# Altium integrated library Analog Devices Data Converters Analog-to-Digital Converters.IntLib: 2400 symbols (part 50 of 338)
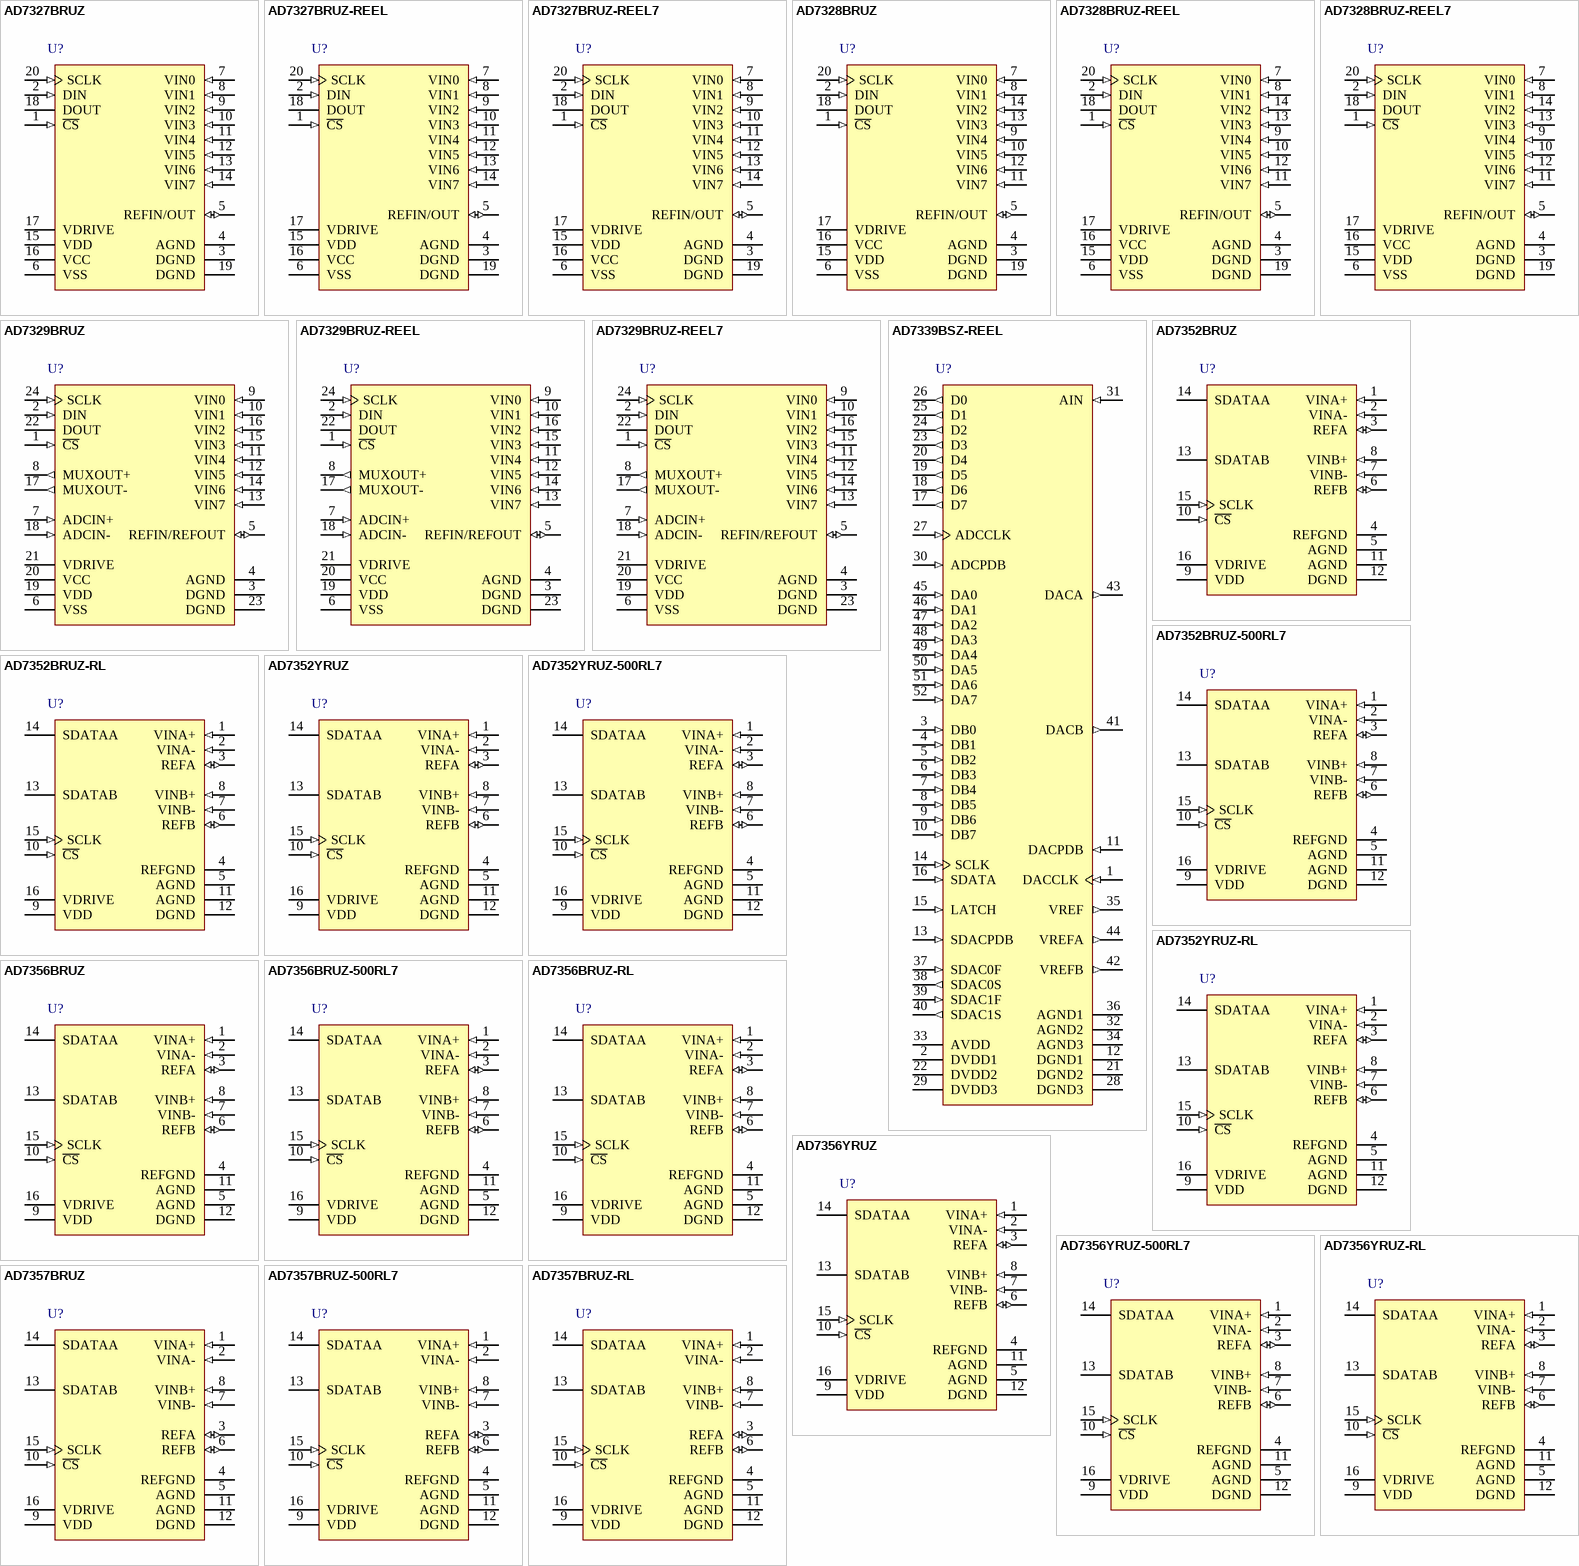
[diagram p184: symbols AD7327BRUZ to AD7357BRUZ-RL]

## AD7339BSZ-REEL
designator U?
Single 8-Bit Analog-to-Digital Converter with Parallel Interface, 5 V, 2MSPS, -40 to +85 degC, S-52-2, Pb-Free, Reel; Part Number: AD7339; Manufacturer: Analog Devices; Resolution (Bits): 8; Channels: 1; Throughput Rate (SPS): 2M; Interface: Par; DatasheetVersion: Rev.0; PackageVersion: 2004; PackageReference: S-52-2; PackageDescription: 52-Lead Metric Quad Flat Package [MQFP]; RoHS: Y; Packing: Reel; Mounting Technology: Surface Mount; Code_JEDEC: MO-112-AC-1; ComponentLink1Description: Manufacturer URL; ComponentLink1URL: http://www.analog.com/en/index.html; ComponentLink2Description: Datasheet; ComponentLink2URL: http://www.analog.com/static/imported-files/data_sheets/AD7339.pdf; ComponentLink3Description: Package Specification; ComponentLink3URL: http://www.analog.com/static/imported-files/packages/32717196300961S_52_2.pdf; ComponentLink4Description: Product URL; ComponentLink4URL: http://www.analog.com/en/analog-to-digital-converters/ad-converters/ad7339/products/product.html
footprint S-52-2_N (QFP, 52-Leads, Body 10x10mm, Pitch 0.65mm, IPC Medium Density)
footprint S-52-2_L (QFP, 52-Leads, Body 10x10mm, Pitch 0.65mm, IPC High Density)
footprint S-52-2_M (QFP, 52-Leads, Body 10x10mm, Pitch 0.65mm, IPC Low Density)
pins: 1 DACCLK (in) "Input clock to the parallel DACs. The digital words in the A and B DAC registers are loaded into the DACs on the rising edge of DACCLK. DACCLK has a nominal frequency of 2.304 MHz and uses CMOS logic.", 2 DVDD1 (power) "Digital power supply for the parallel DACs.", 3 DB0 (in) "Digital input to the parallel B DAC. The digital input uses CMOS logic and the word is presented to the DAC in offset binary format.", 4 DB1 (in) "Digital input to the parallel B DAC. The digital input uses CMOS logic and the word is presented to the DAC in offset binary format.", 5 DB2 (in) "Digital input to the parallel B DAC. The digital input uses CMOS logic and the word is presented to the DAC in offset binary format.", 6 DB3 (in) "Digital input to the parallel B DAC. The digital input uses CMOS logic and the word is presented to the DAC in offset binary format.", 7 DB4 (in) "Digital input to the parallel B DAC. The digital input uses CMOS logic and the word is presented to the DAC in offset binary format.", 8 DB5 (in) "Digital input to the parallel B DAC. The digital input uses CMOS logic and the word is presented to the DAC in offset binary format.", 9 DB6 (in) "Digital input to the parallel B DAC. The digital input uses CMOS logic and the word is presented to the DAC in offset binary format.", 10 DB7 (in) "Digital input to the parallel B DAC. The digital input uses CMOS logic and the word is presented to the DAC in offset binary format.", 11 DACPDB (in) "Digital Input. The parallel DACs, VREFA and VREFB, can be powered down using pin DACPDB. When DACPDB is low, both of the parallel DACs and the VREFA/VREFB outputs are placed in a standby mode, drawing a minimal current. The (See Datasheet)", 12 DGND1 (power) "Digital ground connection for the parallel DACs.", 13 SDACPDB (in) "Digital Input. The serial DACs are powered down using SDACPDB. When this pin is tied low, the serial DACs are placed in standby mode.", 14 SCLK (in) "Serial Input Clock. Data is latched into the registers on the rising edge of SCLK, which is nominally set to 256 kHz. SCLK is a gated clock--the clock should be active only when data is being loaded into the latches. The (See Datasheet)", 15 LATCH (in) "Latch Enable Input. LATCH is used to load the digital data from the latch into the DAC and begin conversion. Both DACs are loaded with the digital data in their respective latches. LATCH is pulsed high to load the DACs, the (See Datasheet)", 16 SDATA (in) "Serial Input Data. Serial data is latched into the AD7339 registers on the rising edge of SCLK. The digital data uses CMOS logic. Data is loaded into the latches in 10-bit bursts (MSB first), the 2 MSBs of the word (See Datasheet)", 17 D7 (out) "Digital Output from the ADC. The 8-bit digital word from the ADC is in offset binary. The digital output uses CMOS logic.", 18 D6 (out) "Digital Output from the ADC. The 8-bit digital word from the ADC is in offset binary. The digital output uses CMOS logic.", 19 D5 (out) "Digital Output from the ADC. The 8-bit digital word from the ADC is in offset binary. The digital output uses CMOS logic.", 20 D4 (out) "Digital Output from the ADC. The 8-bit digital word from the ADC is in offset binary. The digital output uses CMOS logic.", 21 DGND2 (power) "Digital ground connection for the ADC.", 22 DVDD2 (power) "Digital power supply for the ADC.", 23 D3 (out) "Digital Output from the ADC. The 8-bit digital word from the ADC is in offset binary. The digital output uses CMOS logic.", 24 D2 (out) "Digital Output from the ADC. The 8-bit digital word from the ADC is in offset binary. The digital output uses CMOS logic.", 25 D1 (out) "Digital Output from the ADC. The 8-bit digital word from the ADC is in offset binary. The digital output uses CMOS logic.", 26 D0 (out) "Digital Output from the ADC. The 8-bit digital word from the ADC is in offset binary. The digital output uses CMOS logic.", 27 ADCCLK (in) "ADC Input Clock, CMOS Logic Input. The analog input is sampled on the rising edge of ADCCLK. ADCCLK is nominally set to 2.048 MHz.", 28 DGND3 (power) "Digital ground connection for the ADC.", 29 DVDD3 (power) "Digital power supply for the ADC.", 30 ADCPDB (in) "Digital Input. When ADCPDB is low, the ADC is powered down. While in this mode, ADCCLK should be tied low. The ADC is powered up by taking ADCPDB high.", 31 AIN (in) "Analog input to the ADC. The analog input must be appropriately ac coupled. The AD7339 can accept an analog input of +/-1 V maximum.", 32 AGND2 (power) "Analog ground connection for the ADC.", 33 AVDD (power) "Analog power supply connection.", 34 AGND3 (power) "Analog ground connection for the reference.", 35 VREF (out) "The onboard bandgap reference is available on the VREF pin. The reference has a value of 2.5 V nominal. A bypass capacitor of 0.1 mF is required between VREF and AGND. This output cannot be powered down.", 36 AGND1 (power) "Analog ground connection for the parallel DACs.", 37 SDAC0F (in) "Feedback Analog Input. By connecting a resistor between SDAC0F and SDAC0S, the gain of the DAC0 buffer can be altered and the magnitude of the analog output adjusted accordingly.", 38 SDAC0S (out) "Analog Output from Serial DAC0. The analog output from this DAC will have a value of 0.2 V to AVDD - 0.247 V.", 39 SDAC1F (in) "Feedback Analog Input. By connecting a resistor between SDAC1F and SDAC1S, the gain of the DAC1 buffer can be altered and the magnitude of the analog output adjusted accordingly.", 40 SDAC1S (out) "Analog Output from Serial DAC1. The analog output from this DAC will have a value of 0.2 V to AVDD - 0.247 V.", 41 DACB (out) "Analog outputs from the A and B DACs. Both DACs have an analog output of VREFA/VREFB +/- X volts where VREFA = VREFB = 2.5 V nominal and X = 1.4 V.", 42 VREFB (out) "A buffered version of the reference is available on VREFA/VREFB. The analog outputs from the parallel DACs are biased about the reference voltage. DACA is biased about VREFA while DACB is biased about VREFB. VREFA and VREFB (See Datasheet)", 43 DACA (out) "Analog outputs from the A and B DACs. Both DACs have an analog output of VREFA/VREFB +/- X volts where VREFA = VREFB = 2.5 V nominal and X = 1.4 V.", 44 VREFA (out) "A buffered version of the reference is available on VREFA/VREFB. The analog outputs from the parallel DACs are biased about the reference voltage. DACA is biased about VREFA while DACB is biased about VREFB. VREFA and VREFB (See Datasheet)", 45 DA0 (in) "Digital input to the parallel A DAC. The digital input uses CMOS logic and the word is presented to the DAC in offset binary format.", 46 DA1 (in) "Digital input to the parallel A DAC. The digital input uses CMOS logic and the word is presented to the DAC in offset binary format.", 47 DA2 (in) "Digital input to the parallel A DAC. The digital input uses CMOS logic and the word is presented to the DAC in offset binary format.", 48 DA3 (in) "Digital input to the parallel A DAC. The digital input uses CMOS logic and the word is presented to the DAC in offset binary format.", 49 DA4 (in) "Digital input to the parallel A DAC. The digital input uses CMOS logic and the word is presented to the DAC in offset binary format.", 50 DA5 (in) "Digital input to the parallel A DAC. The digital input uses CMOS logic and the word is presented to the DAC in offset binary format.", 51 DA6 (in) "Digital input to the parallel A DAC. The digital input uses CMOS logic and the word is presented to the DAC in offset binary format.", 52 DA7 (in) "Digital input to the parallel A DAC. The digital input uses CMOS logic and the word is presented to the DAC in offset binary format."

## AD7352BRUZ
designator U?
Dual 12-Bit SAR Analog-to-Digital Converter with Serial, SPI Interface, Simultaneous Sampling, 3MSPS, -40 to +85 degC, RU-16, Pb-Free, Tube; Part Number: AD7352; Manufacturer: Analog Devices; Resolution (Bits): 12; Channels: 2; Throughput Rate (SPS): 3M; Interface: Ser, SPI; DatasheetVersion: Rev.A; PackageVersion: Nov-2002; PackageReference: RU-16; PackageDescription: 16-Lead Thin Shrink Small Outline Package [TSSOP]; RoHS: Y; Packing: Tube; Mounting Technology: Surface Mount; Code_JEDEC: MO-153-AB; ComponentLink1Description: Manufacturer URL; ComponentLink1URL: http://www.analog.com/en/index.html; ComponentLink2Description: Datasheet; ComponentLink2URL: http://www.analog.com/static/imported-files/data_sheets/AD7352.pdf; ComponentLink3Description: Package Specification; ComponentLink3URL: http://www.analog.com/static/imported-files/packages/36244347913743854010197452789RU16.pdf; ComponentLink4Description: Product URL; ComponentLink4URL: http://www.analog.com/en/analog-to-digital-converters/ad-converters/ad7352/products/product.html
footprint RU-16_N (TSOP, 16-Leads, Body 5x4.4mm, Pitch 0.65mm, IPC Medium Density)
footprint RU-16_L (TSOP, 16-Leads, Body 5x4.4mm, Pitch 0.65mm, IPC High Density)
footprint RU-16_M (TSOP, 16-Leads, Body 5x4.4mm, Pitch 0.65mm, IPC Low Density)
pins: 1 VINA+ (in) "Analog Inputs of ADC A. These analog inputs form a fully differential pair.", 2 VINA- (in) "Analog Inputs of ADC A. These analog inputs form a fully differential pair.", 3 REFA (io) "Reference Decoupling Capacitor Pins. Decoupling capacitors are connected between these pins and the REFGND pin to decouple the reference buffer for each respective ADC. It is recommended to decouple each reference pin with a (See Datasheet)", 4 REFGND (power) "Reference Ground. This is the ground reference point for the reference circuitry on the AD7352. Any external reference signal should be referred to this REFGND voltage. Decoupling capacitors must be placed between this pin (See Datasheet)", 5 AGND (power) "Analog Ground. This is the ground reference point for all analog circuitry on the AD7352. Refer all analog input signals to this AGND voltage. The AGND and DGND voltages should ideally be at the same potential and must not (See Datasheet)", 6 REFB (io) "Reference Decoupling Capacitor Pins. Decoupling capacitors are connected between these pins and the REFGND pin to decouple the reference buffer for each respective ADC. It is recommended to decouple each reference pin with a (See Datasheet)", 7 VINB- (in) "Analog Inputs of ADC B. These analog inputs form a fully differential pair.", 8 VINB+ (in) "Analog Inputs of ADC B. These analog inputs form a fully differential pair.", 9 VDD (power) "Power Supply Input. The VDD range for the AD7352 is 2.5 V +/-10%. Decouple the supply to AGND with a 0.1 uF capacitor in parallel with a 10 uF tantalum capacitor.", 10 ~{CS} (in) "Chip Select. Active low, logic input. This input provides the dual functions of initiating conversions on the AD7352 and framing the serial data transfer.", 11 AGND (power) "Analog Ground. This is the ground reference point for all analog circuitry on the AD7352. Refer all analog input signals to this AGND voltage. The AGND and DGND voltages should ideally be at the same potential and must not (See Datasheet)", 12 DGND (power) "Digital Ground. This is the ground reference point for all digital circuitry on the AD7352. Connect this pin to the DGND plane of a system. The DGND and AGND voltages should ideally be at the same potential and must not be (See Datasheet)", 13 SDATAB (hiz) "Serial Data Outputs. The data output is supplied to each pin as a serial data stream. The bits are clocked out on the falling edge of the SCLK input. To access the 12 bits of data from the AD7352, 14 SCLK falling edges are (See Datasheet)", 14 SDATAA (hiz) "Serial Data Outputs. The data output is supplied to each pin as a serial data stream. The bits are clocked out on the falling edge of the SCLK input. To access the 12 bits of data from the AD7352, 14 SCLK falling edges are (See Datasheet)", 15 SCLK (in) "Serial Clock, Logic Input. A serial clock input provides the serial clock for accessing the data from the AD7352. This clock is also used as the clock source for the conversion process.", 16 VDRIVE (power) "Logic Power Supply Input. The voltage supplied at this pin determines at what voltage the interface operates. The voltage at this pin may be different than the voltage at VDD. The VDRIVE supply should be decoupled to DGND (See Datasheet)"

## AD7352BRUZ-500RL7
designator U?
Dual 12-Bit SAR Analog-to-Digital Converter with Serial, SPI Interface, Simultaneous Sampling, 3MSPS, -40 to +85 degC, RU-16, Pb-Free, Reel; Part Number: AD7352; Manufacturer: Analog Devices; Resolution (Bits): 12; Channels: 2; Throughput Rate (SPS): 3M; Interface: Ser, SPI; DatasheetVersion: Rev.A; PackageVersion: Nov-2002; PackageReference: RU-16; PackageDescription: 16-Lead Thin Shrink Small Outline Package [TSSOP]; RoHS: Y; Packing: Reel; Mounting Technology: Surface Mount; Code_JEDEC: MO-153-AB; ComponentLink1Description: Manufacturer URL; ComponentLink1URL: http://www.analog.com/en/index.html; ComponentLink2Description: Datasheet; ComponentLink2URL: http://www.analog.com/static/imported-files/data_sheets/AD7352.pdf; ComponentLink3Description: Package Specification; ComponentLink3URL: http://www.analog.com/static/imported-files/packages/36244347913743854010197452789RU16.pdf; ComponentLink4Description: Product URL; ComponentLink4URL: http://www.analog.com/en/analog-to-digital-converters/ad-converters/ad7352/products/product.html
footprint RU-16_N (TSOP, 16-Leads, Body 5x4.4mm, Pitch 0.65mm, IPC Medium Density)
footprint RU-16_L (TSOP, 16-Leads, Body 5x4.4mm, Pitch 0.65mm, IPC High Density)
footprint RU-16_M (TSOP, 16-Leads, Body 5x4.4mm, Pitch 0.65mm, IPC Low Density)
pins: 1 VINA+ (in) "Analog Inputs of ADC A. These analog inputs form a fully differential pair.", 2 VINA- (in) "Analog Inputs of ADC A. These analog inputs form a fully differential pair.", 3 REFA (io) "Reference Decoupling Capacitor Pins. Decoupling capacitors are connected between these pins and the REFGND pin to decouple the reference buffer for each respective ADC. It is recommended to decouple each reference pin with a (See Datasheet)", 4 REFGND (power) "Reference Ground. This is the ground reference point for the reference circuitry on the AD7352. Any external reference signal should be referred to this REFGND voltage. Decoupling capacitors must be placed between this pin (See Datasheet)", 5 AGND (power) "Analog Ground. This is the ground reference point for all analog circuitry on the AD7352. Refer all analog input signals to this AGND voltage. The AGND and DGND voltages should ideally be at the same potential and must not (See Datasheet)", 6 REFB (io) "Reference Decoupling Capacitor Pins. Decoupling capacitors are connected between these pins and the REFGND pin to decouple the reference buffer for each respective ADC. It is recommended to decouple each reference pin with a (See Datasheet)", 7 VINB- (in) "Analog Inputs of ADC B. These analog inputs form a fully differential pair.", 8 VINB+ (in) "Analog Inputs of ADC B. These analog inputs form a fully differential pair.", 9 VDD (power) "Power Supply Input. The VDD range for the AD7352 is 2.5 V +/-10%. Decouple the supply to AGND with a 0.1 uF capacitor in parallel with a 10 uF tantalum capacitor.", 10 ~{CS} (in) "Chip Select. Active low, logic input. This input provides the dual functions of initiating conversions on the AD7352 and framing the serial data transfer.", 11 AGND (power) "Analog Ground. This is the ground reference point for all analog circuitry on the AD7352. Refer all analog input signals to this AGND voltage. The AGND and DGND voltages should ideally be at the same potential and must not (See Datasheet)", 12 DGND (power) "Digital Ground. This is the ground reference point for all digital circuitry on the AD7352. Connect this pin to the DGND plane of a system. The DGND and AGND voltages should ideally be at the same potential and must not be (See Datasheet)", 13 SDATAB (hiz) "Serial Data Outputs. The data output is supplied to each pin as a serial data stream. The bits are clocked out on the falling edge of the SCLK input. To access the 12 bits of data from the AD7352, 14 SCLK falling edges are (See Datasheet)", 14 SDATAA (hiz) "Serial Data Outputs. The data output is supplied to each pin as a serial data stream. The bits are clocked out on the falling edge of the SCLK input. To access the 12 bits of data from the AD7352, 14 SCLK falling edges are (See Datasheet)", 15 SCLK (in) "Serial Clock, Logic Input. A serial clock input provides the serial clock for accessing the data from the AD7352. This clock is also used as the clock source for the conversion process.", 16 VDRIVE (power) "Logic Power Supply Input. The voltage supplied at this pin determines at what voltage the interface operates. The voltage at this pin may be different than the voltage at VDD. The VDRIVE supply should be decoupled to DGND (See Datasheet)"

## AD7352BRUZ-RL
designator U?
Dual 12-Bit SAR Analog-to-Digital Converter with Serial, SPI Interface, Simultaneous Sampling, 3MSPS, -40 to +85 degC, RU-16, Pb-Free, Reel; Part Number: AD7352; Manufacturer: Analog Devices; Resolution (Bits): 12; Channels: 2; Throughput Rate (SPS): 3M; Interface: Ser, SPI; DatasheetVersion: Rev.A; PackageVersion: Nov-2002; PackageReference: RU-16; PackageDescription: 16-Lead Thin Shrink Small Outline Package [TSSOP]; RoHS: Y; Packing: Reel; Mounting Technology: Surface Mount; Code_JEDEC: MO-153-AB; ComponentLink1Description: Manufacturer URL; ComponentLink1URL: http://www.analog.com/en/index.html; ComponentLink2Description: Datasheet; ComponentLink2URL: http://www.analog.com/static/imported-files/data_sheets/AD7352.pdf; ComponentLink3Description: Package Specification; ComponentLink3URL: http://www.analog.com/static/imported-files/packages/36244347913743854010197452789RU16.pdf; ComponentLink4Description: Product URL; ComponentLink4URL: http://www.analog.com/en/analog-to-digital-converters/ad-converters/ad7352/products/product.html
footprint RU-16_N (TSOP, 16-Leads, Body 5x4.4mm, Pitch 0.65mm, IPC Medium Density)
footprint RU-16_L (TSOP, 16-Leads, Body 5x4.4mm, Pitch 0.65mm, IPC High Density)
footprint RU-16_M (TSOP, 16-Leads, Body 5x4.4mm, Pitch 0.65mm, IPC Low Density)
pins: 1 VINA+ (in) "Analog Inputs of ADC A. These analog inputs form a fully differential pair.", 2 VINA- (in) "Analog Inputs of ADC A. These analog inputs form a fully differential pair.", 3 REFA (io) "Reference Decoupling Capacitor Pins. Decoupling capacitors are connected between these pins and the REFGND pin to decouple the reference buffer for each respective ADC. It is recommended to decouple each reference pin with a (See Datasheet)", 4 REFGND (power) "Reference Ground. This is the ground reference point for the reference circuitry on the AD7352. Any external reference signal should be referred to this REFGND voltage. Decoupling capacitors must be placed between this pin (See Datasheet)", 5 AGND (power) "Analog Ground. This is the ground reference point for all analog circuitry on the AD7352. Refer all analog input signals to this AGND voltage. The AGND and DGND voltages should ideally be at the same potential and must not (See Datasheet)", 6 REFB (io) "Reference Decoupling Capacitor Pins. Decoupling capacitors are connected between these pins and the REFGND pin to decouple the reference buffer for each respective ADC. It is recommended to decouple each reference pin with a (See Datasheet)", 7 VINB- (in) "Analog Inputs of ADC B. These analog inputs form a fully differential pair.", 8 VINB+ (in) "Analog Inputs of ADC B. These analog inputs form a fully differential pair.", 9 VDD (power) "Power Supply Input. The VDD range for the AD7352 is 2.5 V +/-10%. Decouple the supply to AGND with a 0.1 uF capacitor in parallel with a 10 uF tantalum capacitor.", 10 ~{CS} (in) "Chip Select. Active low, logic input. This input provides the dual functions of initiating conversions on the AD7352 and framing the serial data transfer.", 11 AGND (power) "Analog Ground. This is the ground reference point for all analog circuitry on the AD7352. Refer all analog input signals to this AGND voltage. The AGND and DGND voltages should ideally be at the same potential and must not (See Datasheet)", 12 DGND (power) "Digital Ground. This is the ground reference point for all digital circuitry on the AD7352. Connect this pin to the DGND plane of a system. The DGND and AGND voltages should ideally be at the same potential and must not be (See Datasheet)", 13 SDATAB (hiz) "Serial Data Outputs. The data output is supplied to each pin as a serial data stream. The bits are clocked out on the falling edge of the SCLK input. To access the 12 bits of data from the AD7352, 14 SCLK falling edges are (See Datasheet)", 14 SDATAA (hiz) "Serial Data Outputs. The data output is supplied to each pin as a serial data stream. The bits are clocked out on the falling edge of the SCLK input. To access the 12 bits of data from the AD7352, 14 SCLK falling edges are (See Datasheet)", 15 SCLK (in) "Serial Clock, Logic Input. A serial clock input provides the serial clock for accessing the data from the AD7352. This clock is also used as the clock source for the conversion process.", 16 VDRIVE (power) "Logic Power Supply Input. The voltage supplied at this pin determines at what voltage the interface operates. The voltage at this pin may be different than the voltage at VDD. The VDRIVE supply should be decoupled to DGND (See Datasheet)"

## AD7352YRUZ
designator U?
Dual 12-Bit SAR Analog-to-Digital Converter with Serial, SPI Interface, Simultaneous Sampling, 3MSPS, -40 to +125 degC, RU-16, Pb-Free, Tube; Part Number: AD7352; Manufacturer: Analog Devices; Resolution (Bits): 12; Channels: 2; Throughput Rate (SPS): 3M; Interface: Ser, SPI; DatasheetVersion: Rev.A; PackageVersion: Nov-2002; PackageReference: RU-16; PackageDescription: 16-Lead Thin Shrink Small Outline Package [TSSOP]; RoHS: Y; Packing: Tube; Mounting Technology: Surface Mount; Code_JEDEC: MO-153-AB; ComponentLink1Description: Manufacturer URL; ComponentLink1URL: http://www.analog.com/en/index.html; ComponentLink2Description: Datasheet; ComponentLink2URL: http://www.analog.com/static/imported-files/data_sheets/AD7352.pdf; ComponentLink3Description: Package Specification; ComponentLink3URL: http://www.analog.com/static/imported-files/packages/36244347913743854010197452789RU16.pdf; ComponentLink4Description: Product URL; ComponentLink4URL: http://www.analog.com/en/analog-to-digital-converters/ad-converters/ad7352/products/product.html
footprint RU-16_N (TSOP, 16-Leads, Body 5x4.4mm, Pitch 0.65mm, IPC Medium Density)
footprint RU-16_L (TSOP, 16-Leads, Body 5x4.4mm, Pitch 0.65mm, IPC High Density)
footprint RU-16_M (TSOP, 16-Leads, Body 5x4.4mm, Pitch 0.65mm, IPC Low Density)
pins: 1 VINA+ (in) "Analog Inputs of ADC A. These analog inputs form a fully differential pair.", 2 VINA- (in) "Analog Inputs of ADC A. These analog inputs form a fully differential pair.", 3 REFA (io) "Reference Decoupling Capacitor Pins. Decoupling capacitors are connected between these pins and the REFGND pin to decouple the reference buffer for each respective ADC. It is recommended to decouple each reference pin with a (See Datasheet)", 4 REFGND (power) "Reference Ground. This is the ground reference point for the reference circuitry on the AD7352. Any external reference signal should be referred to this REFGND voltage. Decoupling capacitors must be placed between this pin (See Datasheet)", 5 AGND (power) "Analog Ground. This is the ground reference point for all analog circuitry on the AD7352. Refer all analog input signals to this AGND voltage. The AGND and DGND voltages should ideally be at the same potential and must not (See Datasheet)", 6 REFB (io) "Reference Decoupling Capacitor Pins. Decoupling capacitors are connected between these pins and the REFGND pin to decouple the reference buffer for each respective ADC. It is recommended to decouple each reference pin with a (See Datasheet)", 7 VINB- (in) "Analog Inputs of ADC B. These analog inputs form a fully differential pair.", 8 VINB+ (in) "Analog Inputs of ADC B. These analog inputs form a fully differential pair.", 9 VDD (power) "Power Supply Input. The VDD range for the AD7352 is 2.5 V +/-10%. Decouple the supply to AGND with a 0.1 uF capacitor in parallel with a 10 uF tantalum capacitor.", 10 ~{CS} (in) "Chip Select. Active low, logic input. This input provides the dual functions of initiating conversions on the AD7352 and framing the serial data transfer.", 11 AGND (power) "Analog Ground. This is the ground reference point for all analog circuitry on the AD7352. Refer all analog input signals to this AGND voltage. The AGND and DGND voltages should ideally be at the same potential and must not (See Datasheet)", 12 DGND (power) "Digital Ground. This is the ground reference point for all digital circuitry on the AD7352. Connect this pin to the DGND plane of a system. The DGND and AGND voltages should ideally be at the same potential and must not be (See Datasheet)", 13 SDATAB (hiz) "Serial Data Outputs. The data output is supplied to each pin as a serial data stream. The bits are clocked out on the falling edge of the SCLK input. To access the 12 bits of data from the AD7352, 14 SCLK falling edges are (See Datasheet)", 14 SDATAA (hiz) "Serial Data Outputs. The data output is supplied to each pin as a serial data stream. The bits are clocked out on the falling edge of the SCLK input. To access the 12 bits of data from the AD7352, 14 SCLK falling edges are (See Datasheet)", 15 SCLK (in) "Serial Clock, Logic Input. A serial clock input provides the serial clock for accessing the data from the AD7352. This clock is also used as the clock source for the conversion process.", 16 VDRIVE (power) "Logic Power Supply Input. The voltage supplied at this pin determines at what voltage the interface operates. The voltage at this pin may be different than the voltage at VDD. The VDRIVE supply should be decoupled to DGND (See Datasheet)"

## AD7352YRUZ-500RL7
designator U?
Dual 12-Bit SAR Analog-to-Digital Converter with Serial, SPI Interface, Simultaneous Sampling, 3MSPS, -40 to +125 degC, RU-16, Pb-Free, Reel; Part Number: AD7352; Manufacturer: Analog Devices; Resolution (Bits): 12; Channels: 2; Throughput Rate (SPS): 3M; Interface: Ser, SPI; DatasheetVersion: Rev.A; PackageVersion: Nov-2002; PackageReference: RU-16; PackageDescription: 16-Lead Thin Shrink Small Outline Package [TSSOP]; RoHS: Y; Packing: Reel; Mounting Technology: Surface Mount; Code_JEDEC: MO-153-AB; ComponentLink1Description: Manufacturer URL; ComponentLink1URL: http://www.analog.com/en/index.html; ComponentLink2Description: Datasheet; ComponentLink2URL: http://www.analog.com/static/imported-files/data_sheets/AD7352.pdf; ComponentLink3Description: Package Specification; ComponentLink3URL: http://www.analog.com/static/imported-files/packages/36244347913743854010197452789RU16.pdf; ComponentLink4Description: Product URL; ComponentLink4URL: http://www.analog.com/en/analog-to-digital-converters/ad-converters/ad7352/products/product.html
footprint RU-16_N (TSOP, 16-Leads, Body 5x4.4mm, Pitch 0.65mm, IPC Medium Density)
footprint RU-16_L (TSOP, 16-Leads, Body 5x4.4mm, Pitch 0.65mm, IPC High Density)
footprint RU-16_M (TSOP, 16-Leads, Body 5x4.4mm, Pitch 0.65mm, IPC Low Density)
pins: 1 VINA+ (in) "Analog Inputs of ADC A. These analog inputs form a fully differential pair.", 2 VINA- (in) "Analog Inputs of ADC A. These analog inputs form a fully differential pair.", 3 REFA (io) "Reference Decoupling Capacitor Pins. Decoupling capacitors are connected between these pins and the REFGND pin to decouple the reference buffer for each respective ADC. It is recommended to decouple each reference pin with a (See Datasheet)", 4 REFGND (power) "Reference Ground. This is the ground reference point for the reference circuitry on the AD7352. Any external reference signal should be referred to this REFGND voltage. Decoupling capacitors must be placed between this pin (See Datasheet)", 5 AGND (power) "Analog Ground. This is the ground reference point for all analog circuitry on the AD7352. Refer all analog input signals to this AGND voltage. The AGND and DGND voltages should ideally be at the same potential and must not (See Datasheet)", 6 REFB (io) "Reference Decoupling Capacitor Pins. Decoupling capacitors are connected between these pins and the REFGND pin to decouple the reference buffer for each respective ADC. It is recommended to decouple each reference pin with a (See Datasheet)", 7 VINB- (in) "Analog Inputs of ADC B. These analog inputs form a fully differential pair.", 8 VINB+ (in) "Analog Inputs of ADC B. These analog inputs form a fully differential pair.", 9 VDD (power) "Power Supply Input. The VDD range for the AD7352 is 2.5 V +/-10%. Decouple the supply to AGND with a 0.1 uF capacitor in parallel with a 10 uF tantalum capacitor.", 10 ~{CS} (in) "Chip Select. Active low, logic input. This input provides the dual functions of initiating conversions on the AD7352 and framing the serial data transfer.", 11 AGND (power) "Analog Ground. This is the ground reference point for all analog circuitry on the AD7352. Refer all analog input signals to this AGND voltage. The AGND and DGND voltages should ideally be at the same potential and must not (See Datasheet)", 12 DGND (power) "Digital Ground. This is the ground reference point for all digital circuitry on the AD7352. Connect this pin to the DGND plane of a system. The DGND and AGND voltages should ideally be at the same potential and must not be (See Datasheet)", 13 SDATAB (hiz) "Serial Data Outputs. The data output is supplied to each pin as a serial data stream. The bits are clocked out on the falling edge of the SCLK input. To access the 12 bits of data from the AD7352, 14 SCLK falling edges are (See Datasheet)", 14 SDATAA (hiz) "Serial Data Outputs. The data output is supplied to each pin as a serial data stream. The bits are clocked out on the falling edge of the SCLK input. To access the 12 bits of data from the AD7352, 14 SCLK falling edges are (See Datasheet)", 15 SCLK (in) "Serial Clock, Logic Input. A serial clock input provides the serial clock for accessing the data from the AD7352. This clock is also used as the clock source for the conversion process.", 16 VDRIVE (power) "Logic Power Supply Input. The voltage supplied at this pin determines at what voltage the interface operates. The voltage at this pin may be different than the voltage at VDD. The VDRIVE supply should be decoupled to DGND (See Datasheet)"

## AD7352YRUZ-RL
designator U?
Dual 12-Bit SAR Analog-to-Digital Converter with Serial, SPI Interface, Simultaneous Sampling, 3MSPS, -40 to +125 degC, RU-16, Pb-Free, Reel; Part Number: AD7352; Manufacturer: Analog Devices; Resolution (Bits): 12; Channels: 2; Throughput Rate (SPS): 3M; Interface: Ser, SPI; DatasheetVersion: Rev.A; PackageVersion: Nov-2002; PackageReference: RU-16; PackageDescription: 16-Lead Thin Shrink Small Outline Package [TSSOP]; RoHS: Y; Packing: Reel; Mounting Technology: Surface Mount; Code_JEDEC: MO-153-AB; ComponentLink1Description: Manufacturer URL; ComponentLink1URL: http://www.analog.com/en/index.html; ComponentLink2Description: Datasheet; ComponentLink2URL: http://www.analog.com/static/imported-files/data_sheets/AD7352.pdf; ComponentLink3Description: Package Specification; ComponentLink3URL: http://www.analog.com/static/imported-files/packages/36244347913743854010197452789RU16.pdf; ComponentLink4Description: Product URL; ComponentLink4URL: http://www.analog.com/en/analog-to-digital-converters/ad-converters/ad7352/products/product.html
footprint RU-16_N (TSOP, 16-Leads, Body 5x4.4mm, Pitch 0.65mm, IPC Medium Density)
footprint RU-16_L (TSOP, 16-Leads, Body 5x4.4mm, Pitch 0.65mm, IPC High Density)
footprint RU-16_M (TSOP, 16-Leads, Body 5x4.4mm, Pitch 0.65mm, IPC Low Density)
pins: 1 VINA+ (in) "Analog Inputs of ADC A. These analog inputs form a fully differential pair.", 2 VINA- (in) "Analog Inputs of ADC A. These analog inputs form a fully differential pair.", 3 REFA (io) "Reference Decoupling Capacitor Pins. Decoupling capacitors are connected between these pins and the REFGND pin to decouple the reference buffer for each respective ADC. It is recommended to decouple each reference pin with a (See Datasheet)", 4 REFGND (power) "Reference Ground. This is the ground reference point for the reference circuitry on the AD7352. Any external reference signal should be referred to this REFGND voltage. Decoupling capacitors must be placed between this pin (See Datasheet)", 5 AGND (power) "Analog Ground. This is the ground reference point for all analog circuitry on the AD7352. Refer all analog input signals to this AGND voltage. The AGND and DGND voltages should ideally be at the same potential and must not (See Datasheet)", 6 REFB (io) "Reference Decoupling Capacitor Pins. Decoupling capacitors are connected between these pins and the REFGND pin to decouple the reference buffer for each respective ADC. It is recommended to decouple each reference pin with a (See Datasheet)", 7 VINB- (in) "Analog Inputs of ADC B. These analog inputs form a fully differential pair.", 8 VINB+ (in) "Analog Inputs of ADC B. These analog inputs form a fully differential pair.", 9 VDD (power) "Power Supply Input. The VDD range for the AD7352 is 2.5 V +/-10%. Decouple the supply to AGND with a 0.1 uF capacitor in parallel with a 10 uF tantalum capacitor.", 10 ~{CS} (in) "Chip Select. Active low, logic input. This input provides the dual functions of initiating conversions on the AD7352 and framing the serial data transfer.", 11 AGND (power) "Analog Ground. This is the ground reference point for all analog circuitry on the AD7352. Refer all analog input signals to this AGND voltage. The AGND and DGND voltages should ideally be at the same potential and must not (See Datasheet)", 12 DGND (power) "Digital Ground. This is the ground reference point for all digital circuitry on the AD7352. Connect this pin to the DGND plane of a system. The DGND and AGND voltages should ideally be at the same potential and must not be (See Datasheet)", 13 SDATAB (hiz) "Serial Data Outputs. The data output is supplied to each pin as a serial data stream. The bits are clocked out on the falling edge of the SCLK input. To access the 12 bits of data from the AD7352, 14 SCLK falling edges are (See Datasheet)", 14 SDATAA (hiz) "Serial Data Outputs. The data output is supplied to each pin as a serial data stream. The bits are clocked out on the falling edge of the SCLK input. To access the 12 bits of data from the AD7352, 14 SCLK falling edges are (See Datasheet)", 15 SCLK (in) "Serial Clock, Logic Input. A serial clock input provides the serial clock for accessing the data from the AD7352. This clock is also used as the clock source for the conversion process.", 16 VDRIVE (power) "Logic Power Supply Input. The voltage supplied at this pin determines at what voltage the interface operates. The voltage at this pin may be different than the voltage at VDD. The VDRIVE supply should be decoupled to DGND (See Datasheet)"

## AD7356BRUZ
designator U?
Dual 12-Bit SAR Analog-to-Digital Converter with Serial, SPI Interface, Simultaneous Sampling, 5MSPS, -40 to +85 degC, RU-16, Pb-Free, Tube; Part Number: AD7356; Manufacturer: Analog Devices; Resolution (Bits): 12; Channels: 2; Throughput Rate (SPS): 5M; Interface: Ser, SPI; DatasheetVersion: Rev.A; PackageVersion: Nov-2002; PackageReference: RU-16; PackageDescription: 16-Lead Thin Shrink Small Outline Package [TSSOP]; RoHS: Y; Packing: Tube; Mounting Technology: Surface Mount; Code_JEDEC: MO-153-AB; ComponentLink1Description: Manufacturer URL; ComponentLink1URL: http://www.analog.com/en/index.html; ComponentLink2Description: Datasheet; ComponentLink2URL: http://www.analog.com/static/imported-files/data_sheets/AD7356.pdf; ComponentLink3Description: Package Specification; ComponentLink3URL: http://www.analog.com/static/imported-files/packages/36244347913743854010197452789RU16.pdf; ComponentLink4Description: Product URL; ComponentLink4URL: http://www.analog.com/en/analog-to-digital-converters/ad-converters/ad7356/products/product.html
footprint RU-16_N (TSOP, 16-Leads, Body 5x4.4mm, Pitch 0.65mm, IPC Medium Density)
footprint RU-16_L (TSOP, 16-Leads, Body 5x4.4mm, Pitch 0.65mm, IPC High Density)
footprint RU-16_M (TSOP, 16-Leads, Body 5x4.4mm, Pitch 0.65mm, IPC Low Density)
pins: 1 VINA+ (in) "Analog Inputs of ADC A. These analog inputs form a fully differential pair.", 2 VINA- (in) "Analog Inputs of ADC A. These analog inputs form a fully differential pair.", 3 REFA (io) "Reference Decoupling Capacitor Pins. Decoupling capacitors are connected between these pins and the REFGND pin to decouple the reference buffer for each respective ADC. It is recommended to decouple each reference pin with a (See Datasheet)", 4 REFGND (power) "Reference Ground. This is the ground reference point for the reference circuitry on the AD7356. Refer any external reference signal to this REFGND voltage. Decoupling capacitors must be placed between this pin and the REFA (See Datasheet)", 5 AGND (power) "Analog Ground. This is the ground reference point for all analog circuitry on the AD7356. All analog input signals should be referred to this AGND voltage. The AGND and DGND voltages should ideally be at the same potential (See Datasheet)", 6 REFB (io) "Reference Decoupling Capacitor Pins. Decoupling capacitors are connected between these pins and the REFGND pin to decouple the reference buffer for each respective ADC. It is recommended to decouple each reference pin with a (See Datasheet)", 7 VINB- (in) "Analog Inputs of ADC B. These analog inputs form a fully differential pair.", 8 VINB+ (in) "Analog Inputs of ADC B. These analog inputs form a fully differential pair.", 9 VDD (power) "Power Supply Input. The VDD range for the AD7356 is 2.5 V +/- 10%. Decouple the supply to AGND with a 0.1uF capacitor in parallel with a 10uF tantalum capacitor.", 10 ~{CS} (in) "Chip Select. Active low logic input. This input provides the dual functions of initiating conversions on the AD7356 and framing the serial data transfer.", 11 AGND (power) "Analog Ground. This is the ground reference point for all analog circuitry on the AD7356. All analog input signals should be referred to this AGND voltage. The AGND and DGND voltages should ideally be at the same potential (See Datasheet)", 12 DGND (power) "Digital Ground. This is the ground reference point for all digital circuitry on the AD7356. Connect this pin to the DGND plane of a system. The DGND and AGND voltages should ideally be at the same potential and must not be (See Datasheet)", 13 SDATAB (hiz) "Serial Data Outputs. The data output is supplied to each pin as a serial data stream. The bits are clocked out on the falling edge of the SCLK input. To access the 12 bits of data from the AD7356, 14 SCLK falling edges are (See Datasheet)", 14 SDATAA (hiz) "Serial Data Outputs. The data output is supplied to each pin as a serial data stream. The bits are clocked out on the falling edge of the SCLK input. To access the 12 bits of data from the AD7356, 14 SCLK falling edges are (See Datasheet)", 15 SCLK (in) "Serial Clock. Logic input. A serial clock input provides the serial clock for accessing the data from the AD7356. This clock is also used as the clock source for the conversion process.", 16 VDRIVE (power) "Logic Power Supply Input. The voltage supplied at this pin determines at what voltage the interface operates. The voltage at this pin may be different than the voltage at VDD. The VDRIVE supply should be decoupled to DGND (See Datasheet)"

## AD7356BRUZ-500RL7
designator U?
Dual 12-Bit SAR Analog-to-Digital Converter with Serial, SPI Interface, Simultaneous Sampling, 5MSPS, -40 to +85 degC, RU-16, Pb-Free, Reel; Part Number: AD7356; Manufacturer: Analog Devices; Resolution (Bits): 12; Channels: 2; Throughput Rate (SPS): 5M; Interface: Ser, SPI; DatasheetVersion: Rev.A; PackageVersion: Nov-2002; PackageReference: RU-16; PackageDescription: 16-Lead Thin Shrink Small Outline Package [TSSOP]; RoHS: Y; Packing: Reel; Mounting Technology: Surface Mount; Code_JEDEC: MO-153-AB; ComponentLink1Description: Manufacturer URL; ComponentLink1URL: http://www.analog.com/en/index.html; ComponentLink2Description: Datasheet; ComponentLink2URL: http://www.analog.com/static/imported-files/data_sheets/AD7356.pdf; ComponentLink3Description: Package Specification; ComponentLink3URL: http://www.analog.com/static/imported-files/packages/36244347913743854010197452789RU16.pdf; ComponentLink4Description: Product URL; ComponentLink4URL: http://www.analog.com/en/analog-to-digital-converters/ad-converters/ad7356/products/product.html
footprint RU-16_N (TSOP, 16-Leads, Body 5x4.4mm, Pitch 0.65mm, IPC Medium Density)
footprint RU-16_L (TSOP, 16-Leads, Body 5x4.4mm, Pitch 0.65mm, IPC High Density)
footprint RU-16_M (TSOP, 16-Leads, Body 5x4.4mm, Pitch 0.65mm, IPC Low Density)
pins: 1 VINA+ (in) "Analog Inputs of ADC A. These analog inputs form a fully differential pair.", 2 VINA- (in) "Analog Inputs of ADC A. These analog inputs form a fully differential pair.", 3 REFA (io) "Reference Decoupling Capacitor Pins. Decoupling capacitors are connected between these pins and the REFGND pin to decouple the reference buffer for each respective ADC. It is recommended to decouple each reference pin with a (See Datasheet)", 4 REFGND (power) "Reference Ground. This is the ground reference point for the reference circuitry on the AD7356. Refer any external reference signal to this REFGND voltage. Decoupling capacitors must be placed between this pin and the REFA (See Datasheet)", 5 AGND (power) "Analog Ground. This is the ground reference point for all analog circuitry on the AD7356. All analog input signals should be referred to this AGND voltage. The AGND and DGND voltages should ideally be at the same potential (See Datasheet)", 6 REFB (io) "Reference Decoupling Capacitor Pins. Decoupling capacitors are connected between these pins and the REFGND pin to decouple the reference buffer for each respective ADC. It is recommended to decouple each reference pin with a (See Datasheet)", 7 VINB- (in) "Analog Inputs of ADC B. These analog inputs form a fully differential pair.", 8 VINB+ (in) "Analog Inputs of ADC B. These analog inputs form a fully differential pair.", 9 VDD (power) "Power Supply Input. The VDD range for the AD7356 is 2.5 V +/- 10%. Decouple the supply to AGND with a 0.1uF capacitor in parallel with a 10uF tantalum capacitor.", 10 ~{CS} (in) "Chip Select. Active low logic input. This input provides the dual functions of initiating conversions on the AD7356 and framing the serial data transfer.", 11 AGND (power) "Analog Ground. This is the ground reference point for all analog circuitry on the AD7356. All analog input signals should be referred to this AGND voltage. The AGND and DGND voltages should ideally be at the same potential (See Datasheet)", 12 DGND (power) "Digital Ground. This is the ground reference point for all digital circuitry on the AD7356. Connect this pin to the DGND plane of a system. The DGND and AGND voltages should ideally be at the same potential and must not be (See Datasheet)", 13 SDATAB (hiz) "Serial Data Outputs. The data output is supplied to each pin as a serial data stream. The bits are clocked out on the falling edge of the SCLK input. To access the 12 bits of data from the AD7356, 14 SCLK falling edges are (See Datasheet)", 14 SDATAA (hiz) "Serial Data Outputs. The data output is supplied to each pin as a serial data stream. The bits are clocked out on the falling edge of the SCLK input. To access the 12 bits of data from the AD7356, 14 SCLK falling edges are (See Datasheet)", 15 SCLK (in) "Serial Clock. Logic input. A serial clock input provides the serial clock for accessing the data from the AD7356. This clock is also used as the clock source for the conversion process.", 16 VDRIVE (power) "Logic Power Supply Input. The voltage supplied at this pin determines at what voltage the interface operates. The voltage at this pin may be different than the voltage at VDD. The VDRIVE supply should be decoupled to DGND (See Datasheet)"